# EAGLE library part ADAU1701 (library _motovilo)
ADAU1701 SigmaDSP 28-/56-Bit Audio Processor with Two ADCs and Four DACs https://www.analog.com/en/products/adau1701.html
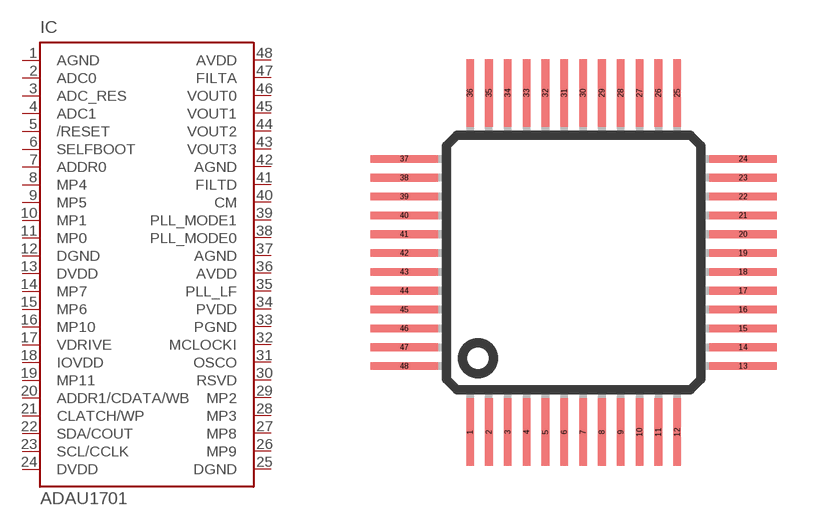
[diagram p12: symbol with the pads of LQFP-48; footprint LQFP-48]

Designator prefix IC

## ADAU1701  [LQFP-48]
1  AGND
2  ADC0
3  ADC_RES
4  ADC1
5  /RESET
6  SELFBOOT
7  ADDR0
8  MP4
9  MP5
10  MP1
11  MP0
12  DGND
13  DVDD
14  MP7
15  MP6
16  MP10
17  VDRIVE
18  IOVDD
19  MP11
20  ADDR1/CDATA/WB
21  CLATCH/WP
22  SDA/COUT
23  SCL/CCLK
24  DVDD
25  DGND
26  MP9
27  MP8
28  MP3
29  MP2
30  RSVD
31  OSCO
32  MCLOCKI
33  PGND
34  PVDD
35  PLL_LF
36  AVDD
37  AGND
38  PLL_MODE0
39  PLL_MODE1
40  CM
41  FILTD
42  AGND
43  VOUT3
44  VOUT2
45  VOUT1
46  VOUT0
47  FILTA
48  AVDD

## Footprint LQFP-48 (pad centres in mm)
LQFP-48
smd 0.203 x 1.8: 1 -2.75,-4.5; 2 -2.25,-4.5; 3 -1.75,-4.5; 4 -1.25,-4.5; 5 -0.75,-4.5; 6 -0.25,-4.5; 7 0.25,-4.5; 8 0.75,-4.5; 9 1.25,-4.5; 10 1.75,-4.5; 11 2.25,-4.5; 12 2.75,-4.5; 25 2.75,4.5; 26 2.25,4.5; 27 1.75,4.5; 28 1.25,4.5; 29 0.75,4.5; 30 0.25,4.5; 31 -0.25,4.5; 32 -0.75,4.5; 33 -1.25,4.5; 34 -1.75,4.5; 35 -2.25,4.5; 36 -2.75,4.5
smd 1.8 x 0.203: 13 4.5,-2.75; 14 4.5,-2.25; 15 4.5,-1.75; 16 4.5,-1.25; 17 4.5,-0.75; 18 4.5,-0.25; 19 4.5,0.25; 20 4.5,0.75; 21 4.5,1.25; 22 4.5,1.75; 23 4.5,2.25; 24 4.5,2.75; 37 -4.5,2.75; 38 -4.5,2.25; 39 -4.5,1.75; 40 -4.5,1.25; 41 -4.5,0.75; 42 -4.5,0.25; 43 -4.5,-0.25; 44 -4.5,-0.75; 45 -4.5,-1.25; 46 -4.5,-1.75; 47 -4.5,-2.25; 48 -4.5,-2.75